# Altium integrated library texas-sn55-sn75.IntLib: 16 symbols
Pins are listed as number, name and electrical type; pins without a type are passive.

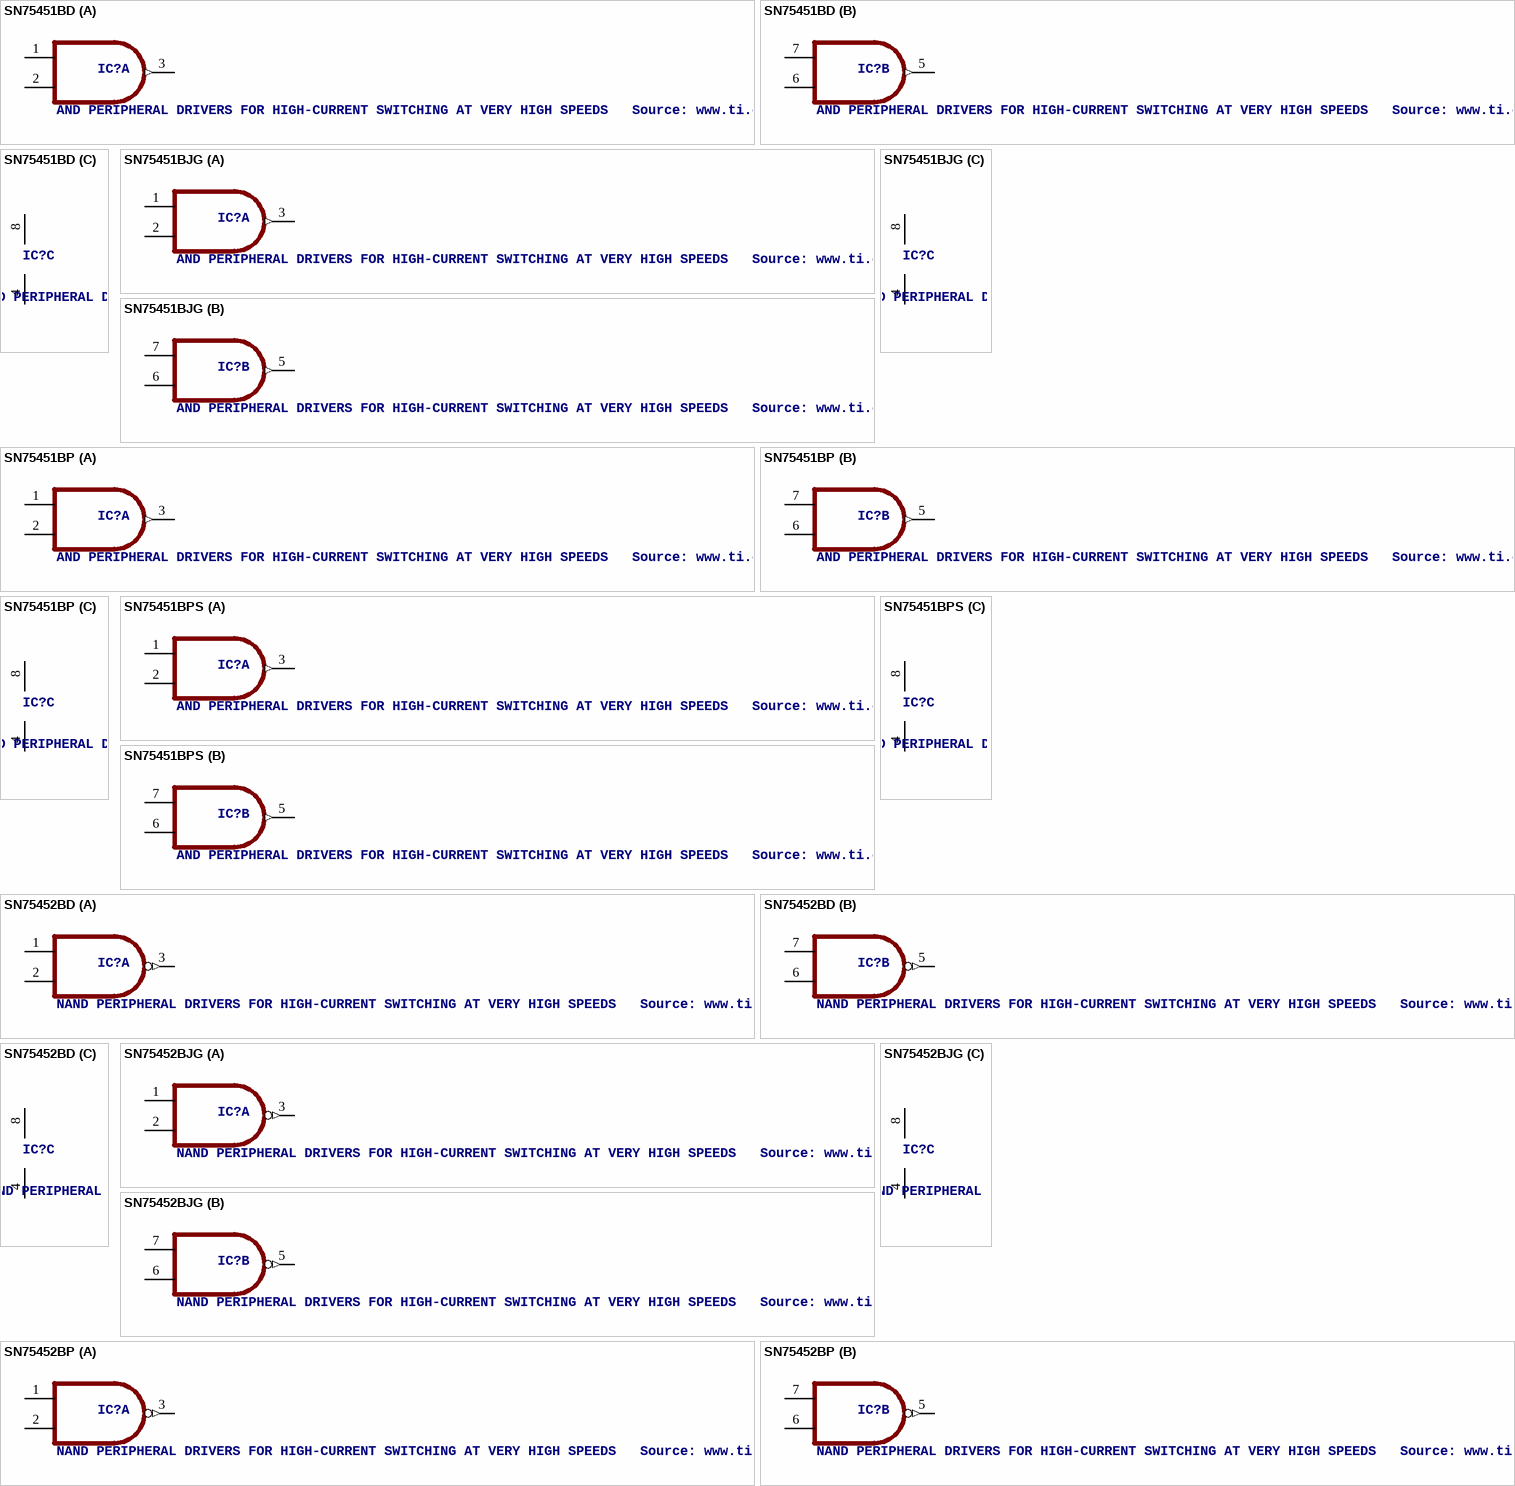
[diagram p0: symbols SN75451BD to SN75452BP]

## SN75451BD
designator IC?, comment AND PERIPHERAL DRIVERS FOR HIGH-CURRENT SWITCHING AT VERY HIGH SPEEDS   Source: www.ti.com sn75452b.pdf
footprint D_R-PDSO-G8
part A pins: 1 I0, 2 I1, 3 O (out)
part B pins: 5 O (out), 6 I1, 7 I0
part C pins: 4 GND (power), 8 VCC (power)

## SN75451BJG
designator IC?, comment AND PERIPHERAL DRIVERS FOR HIGH-CURRENT SWITCHING AT VERY HIGH SPEEDS   Source: www.ti.com sn75452b.pdf
footprint DIL08
part A pins: 1 I0, 2 I1, 3 O (out)
part B pins: 5 O (out), 6 I1, 7 I0
part C pins: 4 GND (power), 8 VCC (power)

## SN75451BP
designator IC?, comment AND PERIPHERAL DRIVERS FOR HIGH-CURRENT SWITCHING AT VERY HIGH SPEEDS   Source: www.ti.com sn75452b.pdf
footprint DIL08
part A pins: 1 I0, 2 I1, 3 O (out)
part B pins: 5 O (out), 6 I1, 7 I0
part C pins: 4 GND (power), 8 VCC (power)

## SN75451BPS
designator IC?, comment AND PERIPHERAL DRIVERS FOR HIGH-CURRENT SWITCHING AT VERY HIGH SPEEDS   Source: www.ti.com sn75452b.pdf
footprint PS_R-PDSO-G8
part A pins: 1 I0, 2 I1, 3 O (out)
part B pins: 5 O (out), 6 I1, 7 I0
part C pins: 4 GND (power), 8 VCC (power)

## SN75452BD
designator IC?, comment NAND PERIPHERAL DRIVERS FOR HIGH-CURRENT SWITCHING AT VERY HIGH SPEEDS   Source: www.ti.com sn75452b.pdf
footprint D_R-PDSO-G8
part A pins: 1 I0, 2 I1, 3 O (out)
part B pins: 5 O (out), 6 I1, 7 I0
part C pins: 4 GND (power), 8 VCC (power)

## SN75452BJG
designator IC?, comment NAND PERIPHERAL DRIVERS FOR HIGH-CURRENT SWITCHING AT VERY HIGH SPEEDS   Source: www.ti.com sn75452b.pdf
footprint DIL08
part A pins: 1 I0, 2 I1, 3 O (out)
part B pins: 5 O (out), 6 I1, 7 I0
part C pins: 4 GND (power), 8 VCC (power)

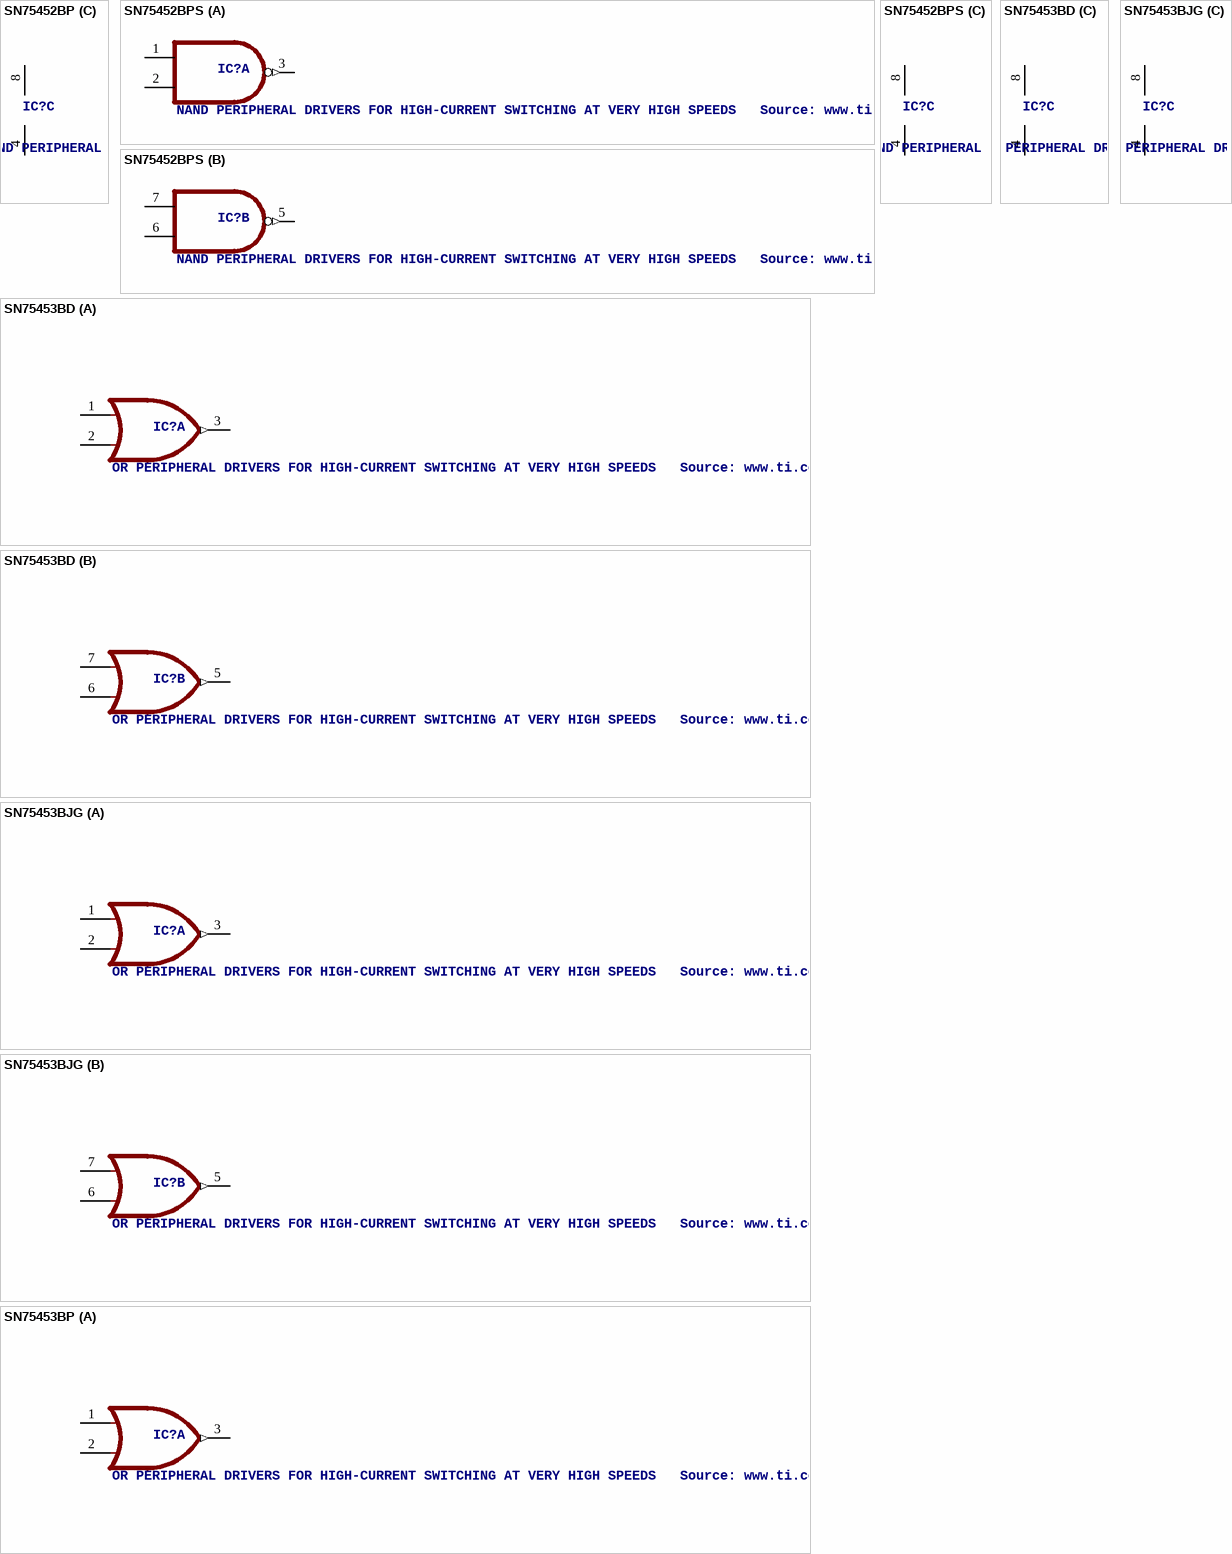
[diagram p1: symbols SN75452BP to SN75453BP]

## SN75452BP
designator IC?, comment NAND PERIPHERAL DRIVERS FOR HIGH-CURRENT SWITCHING AT VERY HIGH SPEEDS   Source: www.ti.com sn75452b.pdf
footprint DIL08
part A pins: 1 I0, 2 I1, 3 O (out)
part B pins: 5 O (out), 6 I1, 7 I0
part C pins: 4 GND (power), 8 VCC (power)

## SN75452BPS
designator IC?, comment NAND PERIPHERAL DRIVERS FOR HIGH-CURRENT SWITCHING AT VERY HIGH SPEEDS   Source: www.ti.com sn75452b.pdf
footprint PS_R-PDSO-G8
part A pins: 1 I0, 2 I1, 3 O (out)
part B pins: 5 O (out), 6 I1, 7 I0
part C pins: 4 GND (power), 8 VCC (power)

## SN75453BD
designator IC?, comment OR PERIPHERAL DRIVERS FOR HIGH-CURRENT SWITCHING AT VERY HIGH SPEEDS   Source: www.ti.com sn75452b.pdf
footprint D_R-PDSO-G8
part A pins: 1 I0, 2 I1, 3 O (out)
part B pins: 5 O (out), 6 I1, 7 I0
part C pins: 4 GND (power), 8 VCC (power)

## SN75453BJG
designator IC?, comment OR PERIPHERAL DRIVERS FOR HIGH-CURRENT SWITCHING AT VERY HIGH SPEEDS   Source: www.ti.com sn75452b.pdf
footprint DIL08
part A pins: 1 I0, 2 I1, 3 O (out)
part B pins: 5 O (out), 6 I1, 7 I0
part C pins: 4 GND (power), 8 VCC (power)

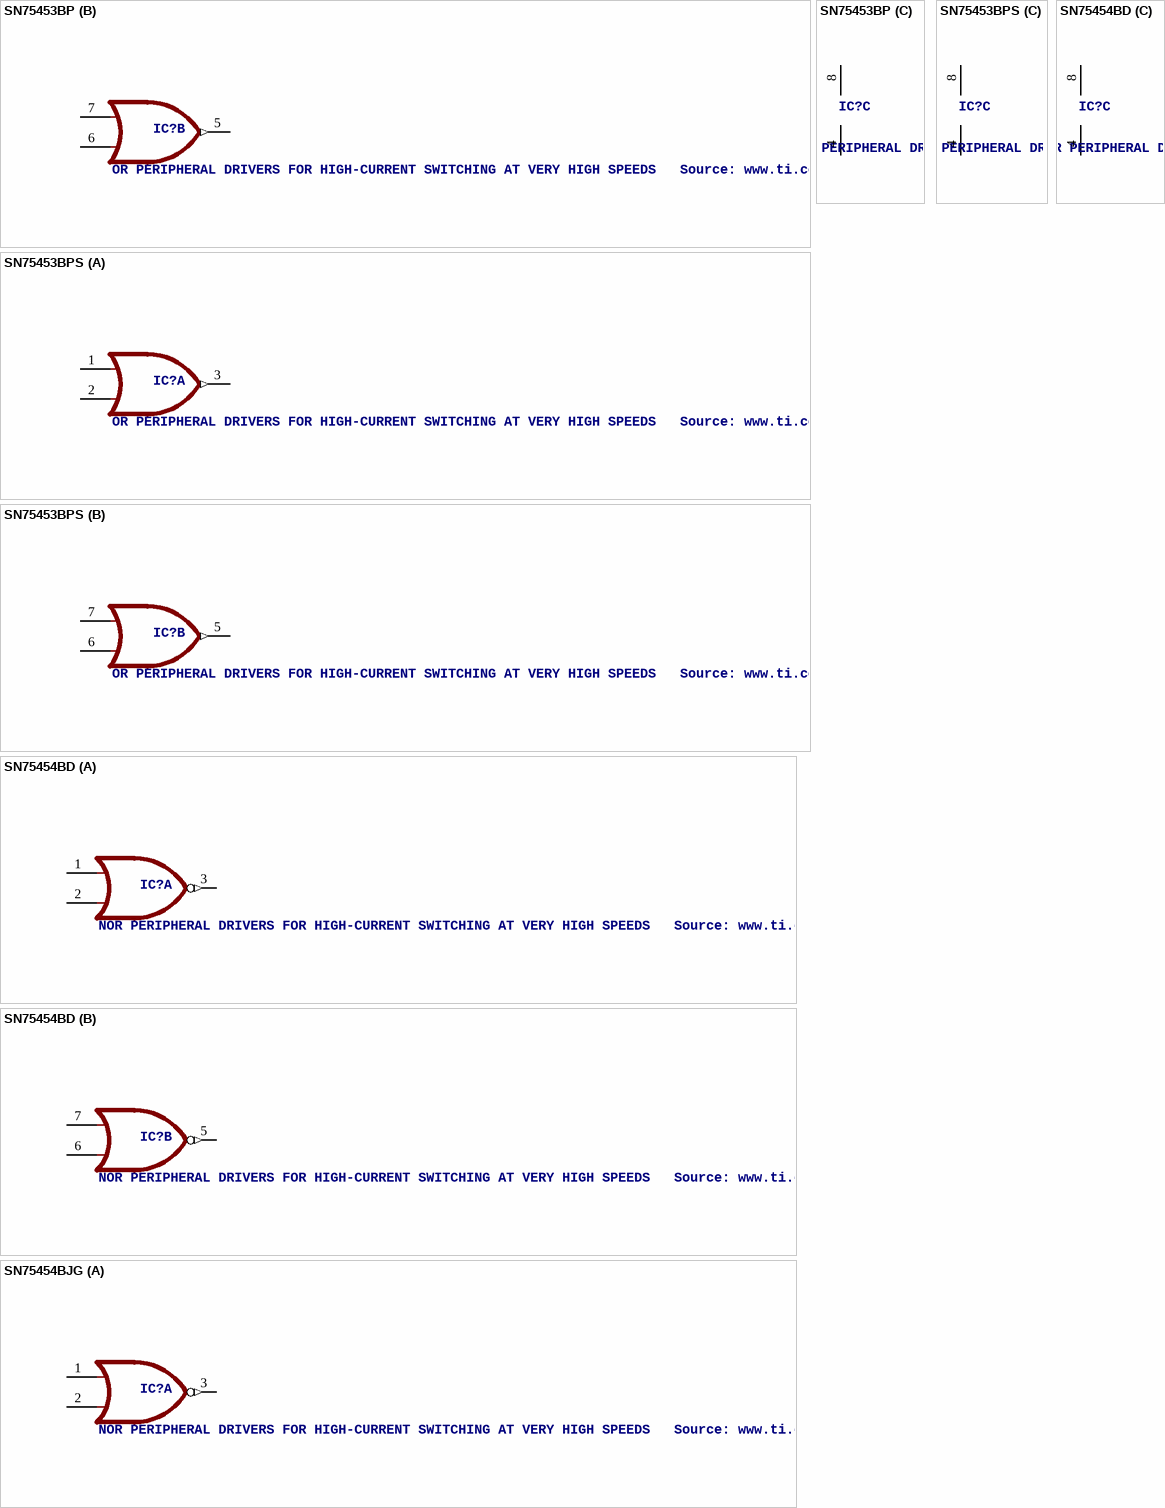
[diagram p2: symbols SN75453BP to SN75454BJG]

## SN75453BP
designator IC?, comment OR PERIPHERAL DRIVERS FOR HIGH-CURRENT SWITCHING AT VERY HIGH SPEEDS   Source: www.ti.com sn75452b.pdf
footprint DIL08
part A pins: 1 I0, 2 I1, 3 O (out)
part B pins: 5 O (out), 6 I1, 7 I0
part C pins: 4 GND (power), 8 VCC (power)

## SN75453BPS
designator IC?, comment OR PERIPHERAL DRIVERS FOR HIGH-CURRENT SWITCHING AT VERY HIGH SPEEDS   Source: www.ti.com sn75452b.pdf
footprint PS_R-PDSO-G8
part A pins: 1 I0, 2 I1, 3 O (out)
part B pins: 5 O (out), 6 I1, 7 I0
part C pins: 4 GND (power), 8 VCC (power)

## SN75454BD
designator IC?, comment NOR PERIPHERAL DRIVERS FOR HIGH-CURRENT SWITCHING AT VERY HIGH SPEEDS   Source: www.ti.com sn75452b.pdf
footprint D_R-PDSO-G8
part A pins: 1 I0, 2 I1, 3 O (out)
part B pins: 5 O (out), 6 I1, 7 I0
part C pins: 4 GND (power), 8 VCC (power)

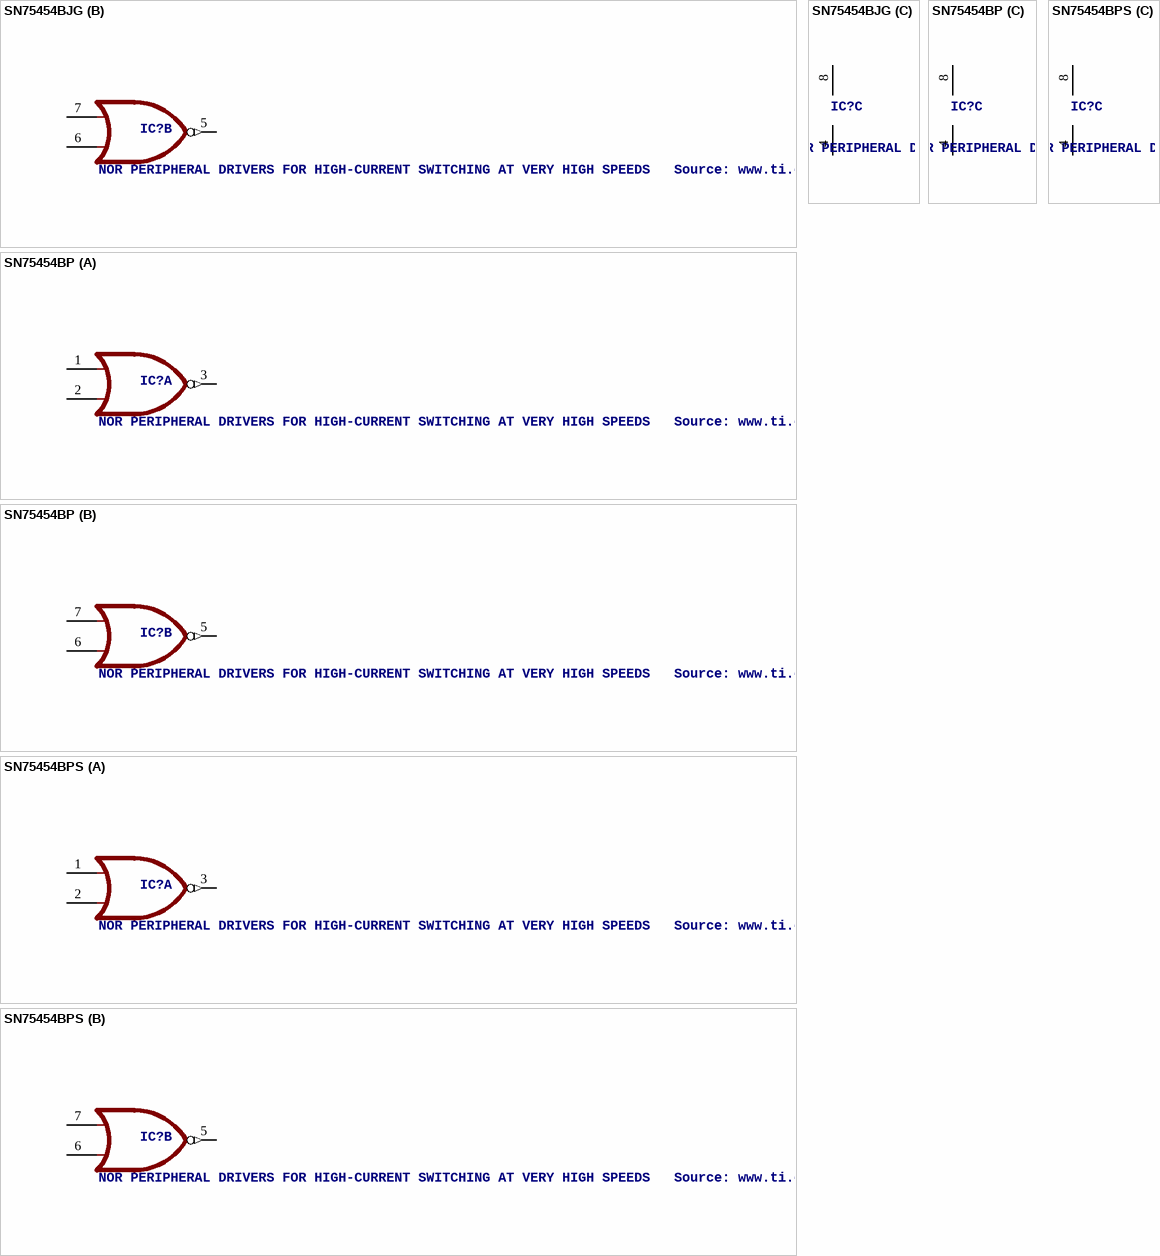
[diagram p3: symbols SN75454BJG to SN75454BPS]

## SN75454BJG
designator IC?, comment NOR PERIPHERAL DRIVERS FOR HIGH-CURRENT SWITCHING AT VERY HIGH SPEEDS   Source: www.ti.com sn75452b.pdf
footprint DIL08
part A pins: 1 I0, 2 I1, 3 O (out)
part B pins: 5 O (out), 6 I1, 7 I0
part C pins: 4 GND (power), 8 VCC (power)

## SN75454BP
designator IC?, comment NOR PERIPHERAL DRIVERS FOR HIGH-CURRENT SWITCHING AT VERY HIGH SPEEDS   Source: www.ti.com sn75452b.pdf
footprint DIL08
part A pins: 1 I0, 2 I1, 3 O (out)
part B pins: 5 O (out), 6 I1, 7 I0
part C pins: 4 GND (power), 8 VCC (power)

## SN75454BPS
designator IC?, comment NOR PERIPHERAL DRIVERS FOR HIGH-CURRENT SWITCHING AT VERY HIGH SPEEDS   Source: www.ti.com sn75452b.pdf
footprint PS_R-PDSO-G8
part A pins: 1 I0, 2 I1, 3 O (out)
part B pins: 5 O (out), 6 I1, 7 I0
part C pins: 4 GND (power), 8 VCC (power)